# Altium schematic symbol library Logic_Programmable.SchLib: 6 symbols
Pins are listed as number, name and electrical type; pins without a type are passive.

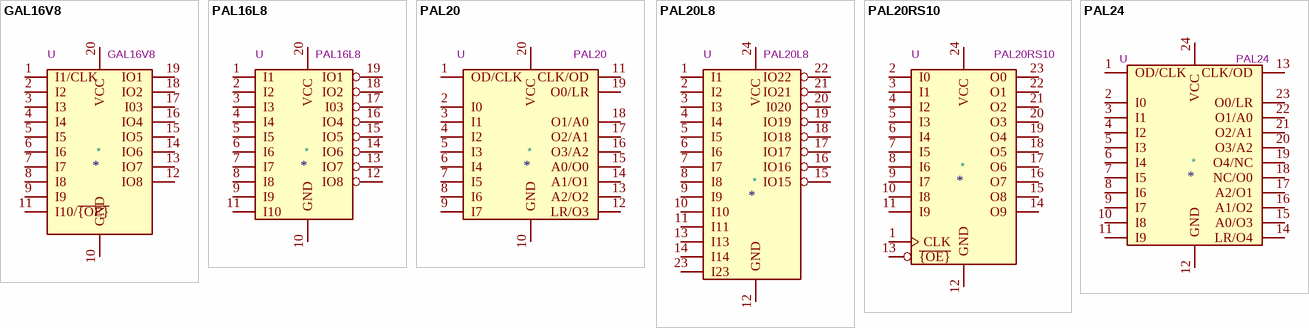
[diagram p0: symbols GAL16V8 to PAL24]

## GAL16V8
designator *  value GAL16V8  Reference: U
ki_keywords: GAL PLD 16V8; ki_description: Programmable Logic Array, DIP-20/SOIC-20/PLCC-20; ki_fp_filters: DIP* PDIP* SOIC* SO* PLCC*
pins: 1 I1/CLK, 2 I2, 3 I3, 4 I4, 5 I5, 6 I6, 7 I7, 8 I8, 9 I9, 10 GND, 11 I10/~{{OE}}, 12 IO8, 13 IO7, 14 IO6, 15 IO5, 16 IO4, 17 I03, 18 IO2, 19 IO1, 20 VCC

## PAL16L8
designator *  value PAL16L8  Reference: U
ki_keywords: PAL PLD 16L8; ki_description: Programmable Logic Array, DIP-20; ki_fp_filters: DIP* PDIP*
pins: 1 I1, 2 I2, 3 I3, 4 I4, 5 I5, 6 I6, 7 I7, 8 I8, 9 I9, 10 GND, 11 I10, 12 IO8, 13 IO7, 14 IO6, 15 IO5, 16 IO4, 17 I03, 18 IO2, 19 IO1, 20 VCC

## PAL20
designator *  value PAL20  Reference: U
ki_keywords: logic programmable PAL; ki_description: generic 20-pin Programmable Array Logic (PAL) device; Datasheet: ~
pins: 1 OD/CLK, 2 I0, 3 I1, 4 I2, 5 I3, 6 I4, 7 I5, 8 I6, 9 I7, 10 GND, 11 CLK/OD, 12 LR/O3, 13 A2/O2, 14 A1/O1, 15 A0/O0, 16 O3/A2, 17 O2/A1, 18 O1/A0, 19 O0/LR, 20 VCC

## PAL20L8
designator *  value PAL20L8  Reference: U
ki_keywords: PAL PLD 20L8; ki_description: Programmable Logic Array, DIP-24; ki_fp_filters: DIP* PDIP*
pins: 1 I1, 2 I2, 3 I3, 4 I4, 5 I5, 6 I6, 7 I7, 8 I8, 9 I9, 10 I10, 11 I11, 12 GND, 13 I13, 14 I14, 15 IO15, 16 IO16, 17 IO17, 18 IO18, 19 IO19, 20 I020, 21 IO21, 22 IO22, 23 I23, 24 VCC

## PAL20RS10
designator *  value PAL20RS10  Reference: U
ki_keywords: PAL PLD 20RS10; ki_description: Programmable Logic Array, DIP-24 (Narrow); ki_fp_filters: DIP* PDIP*
pins: 1 CLK, 2 I0, 3 I1, 4 I2, 5 I3, 6 I4, 7 I5, 8 I6, 9 I7, 10 I8, 11 I9, 12 GND, 13 ~{{OE}}, 14 O9, 15 O8, 16 O7, 17 O6, 18 O5, 19 O4, 20 O3, 21 O2, 22 O1, 23 O0, 24 VCC

## PAL24
designator *  value PAL24  Reference: U
ki_keywords: logic programmable PAL; ki_description: generic 24-pin Programmable Array Logic (PAL) device; Datasheet: ~
pins: 1 OD/CLK, 2 I0, 3 I1, 4 I2, 5 I3, 6 I4, 7 I5, 8 I6, 9 I7, 10 I8, 11 I9, 12 GND, 13 CLK/OD, 14 LR/O4, 15 A0/O3, 16 A1/O2, 17 A2/O1, 18 NC/O0, 19 O4/NC, 20 O3/A2, 21 O2/A1, 22 O1/A0, 23 O0/LR, 24 VCC